# EAGLE library part MC14028BDG (library SamacSys_Parts)
ON Semiconductor MC14028BDG, Decoder, 1-of-10, Non-Inverting, 3 18 V, 16-Pin SOIC Source: Datasheet <http://www.onsemi.com/pub/Collateral/MC14028B-D.PDF>
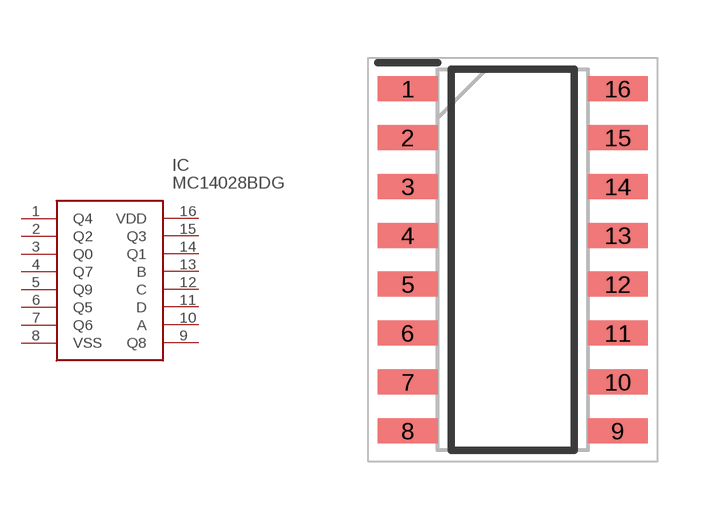
[diagram p7: symbol with the pads of SOIC127P600X175-16N; footprint SOIC127P600X175-16N]

Designator prefix IC

## MC14028BDG (Description: ON Semiconductor MC14028BDG, Decoder, 1-of-10, Non-Inverting, 3 18 V, 16-Pin SOIC; Height: 1.75mm; Manufacturer_Name: ON Semiconductor; Manufacturer_Part_Number: MC14028BDG; Mouser_Part_Number: 863-MC14028BDG; Mouser_Price-Stock: https://www.mouser.co.uk/ProductDetail/ON-Semiconductor/MC14028BDG?qs=g2rIOKKlpoYpDidlKoUFzg%3D%3D)  [SOIC127P600X175-16N]
1  Q4
2  Q2
3  Q0
4  Q7
5  Q9
6  Q5
7  Q6
8  VSS
9  Q8
10  A
11  D
12  C
13  B
14  Q1
15  Q3
16  VDD

## Footprint SOIC127P600X175-16N (pad centres in mm)
SO-16 CASE 751B-05 ISSUE K
smd 1.55 x 0.65: 1 -2.725,4.445; 2 -2.725,3.175; 3 -2.725,1.905; 4 -2.725,0.635; 5 -2.725,-0.635; 6 -2.725,-1.905; 7 -2.725,-3.175; 8 -2.725,-4.445; 9 2.725,-4.445; 10 2.725,-3.175; 11 2.725,-1.905; 12 2.725,-0.635; 13 2.725,0.635; 14 2.725,1.905; 15 2.725,3.175; 16 2.725,4.445